# EAGLE library part LTC4002 (library pepin)
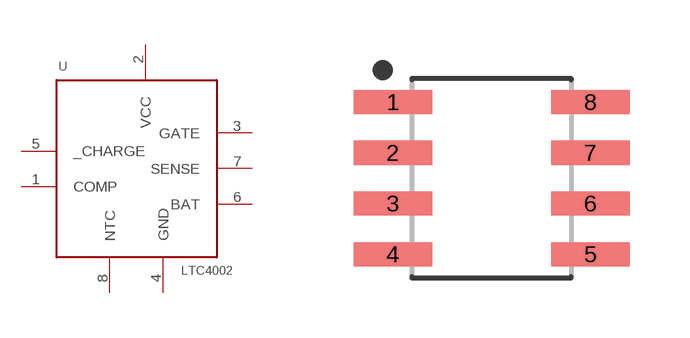
[diagram p4: symbol with the pads of SOIC127P599X175-8; footprint SOIC127P599X175-8]

Designator prefix U

## LTC4002  [SOIC127P599X175-8]
1  COMP
2  VCC  pwr
3  GATE
4  GND  pwr
5  _CHARGE
6  BAT
7  SENSE
8  NTC

## Footprint SOIC127P599X175-8 (pad centres in mm)
8-SOIC, 1.27 mm pitch, 6.00 mm span, 4.91 X 3.90 X 1.75 mm body 8-pin SOIC package with 1.27 mm pitch, 6.00 mm span with body size 4.91 X 3.90 X 1.75 mm
smd 1.965 x 0.602: 1 -2.47,1.905; 2 -2.47,0.635; 3 -2.47,-0.635; 4 -2.47,-1.905; 5 2.47,-1.905; 6 2.47,-0.635; 7 2.47,0.635; 8 2.47,1.905